# Altium footprint library AP63205WU-7.PcbLib: 3 footprints
Each footprint in its own frame and in the unit in brackets; x right, y up, seen from the top. Pads: shape width x height; smd on the part's side, far side on the other; paste and mask are expansions set on the pad; w line width, h text height; cw(c..) or ccw(c..) is an arc to the next point about the centre after c.
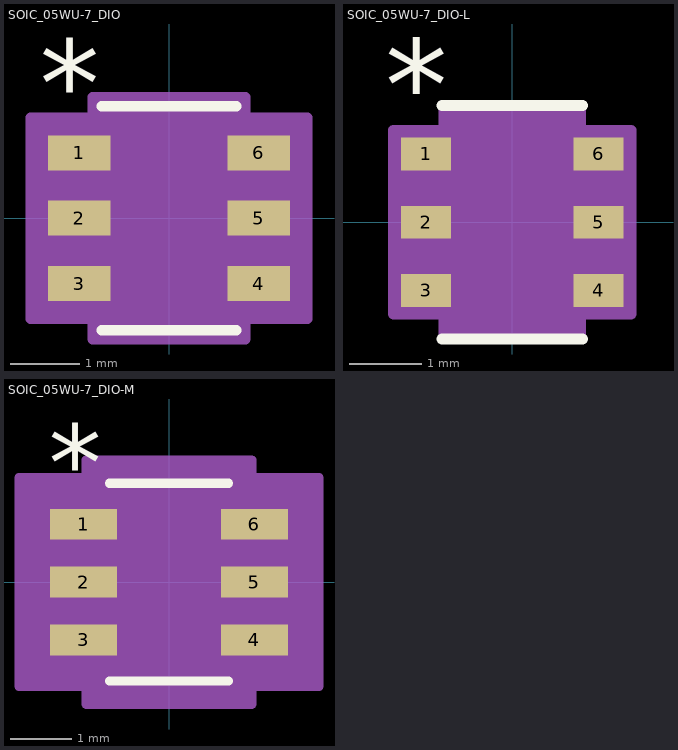
[diagram p0: the footprints below, top view; thin cyan lines are the x and y axes]

## SOIC_05WU-7_DIO [mil]
pads (6):
  rect 35.5x20 smd paste+0 mask+0: 1(-51.25,37.4) 2(-51.25,0) 3(-51.25,-37.4) 4(51.25,-37.4) 5(51.25,0) 6(51.25,37.4)
Top Overlay:
  lines w6: -38.5,-64 38.5,-64 ; -38.5,64 38.5,64
  text "*" at -73.75,52.4 h50
Mechanical 13:
  lines w0: -12,59 ccw(c0,59) 12,59
  lines w1: -55,-46.4 -55,-28.4 -33.5,-28.4 -33.5,-46.4 -55,-46.4 ; -55,-9 -55,9 -33.5,9 -33.5,-9 -55,-9 ; -55,28.4 -55,46.4 -33.5,46.4 -33.5,28.4 -55,28.4 ; -33.5,-59 33.5,-59 33.5,59 -33.5,59 -33.5,-59 ; 33.5,-46.4 33.5,-28.4 55,-28.4 55,-46.4 33.5,-46.4 ; 33.5,-9 33.5,9 55,9 55,-9 33.5,-9 ; 33.5,28.4 33.5,46.4 55,46.4 55,28.4 33.5,28.4
  text "*" at -31,6 h50
Mechanical 15:
  region: -43.5,-57.4 -79,-57.4 -79,57.4 -43.5,57.4 -43.5,69 43.5,69 43.5,57.4 79,57.4 79,-57.4 43.5,-57.4 43.5,-69 -43.5,-69
  lines w6: -79,-57.4 -79,57.4 -43.5,57.4 -43.5,69 43.5,69 43.5,57.4 79,57.4 79,-57.4 43.5,-57.4 43.5,-69 -43.5,-69 -43.5,-57.4 -79,-57.4
3D body "SOIC_05WU-7_DIO.step": height 39.09, standoff 0, extent -55,-59.02 55,59.02

## SOIC_05WU-7_DIO-L [mil]
pads (6):
  rect 27.5x18 smd paste+0 mask+0: 1(-47.25,37.4) 2(-47.25,0) 3(-47.25,-37.4) 4(47.25,-37.4) 5(47.25,0) 6(47.25,37.4)
Top Overlay:
  lines w6: -38.5,-64 38.5,-64 ; -38.5,64 38.5,64
  text "*" at -69.75,50.4 h50
Mechanical 13:
  lines w0: -12,59 ccw(c0,59) 12,59
  lines w1: -55,-46.4 -55,-28.4 -33.5,-28.4 -33.5,-46.4 -55,-46.4 ; -55,-9 -55,9 -33.5,9 -33.5,-9 -55,-9 ; -55,28.4 -55,46.4 -33.5,46.4 -33.5,28.4 -55,28.4 ; -33.5,-59 33.5,-59 33.5,59 -33.5,59 -33.5,-59 ; 33.5,-46.4 33.5,-28.4 55,-28.4 55,-46.4 33.5,-46.4 ; 33.5,-9 33.5,9 55,9 55,-9 33.5,-9 ; 33.5,28.4 33.5,46.4 55,46.4 55,28.4 33.5,28.4
  text "*" at -31,6 h50
Mechanical 15:
  region: -37.5,-50.4 -65,-50.4 -65,50.4 -37.5,50.4 -37.5,63 37.5,63 37.5,50.4 65,50.4 65,-50.4 37.5,-50.4 37.5,-63 -37.5,-63
  lines w6: -65,-50.4 -65,50.4 -37.5,50.4 -37.5,63 37.5,63 37.5,50.4 65,50.4 65,-50.4 37.5,-50.4 37.5,-63 -37.5,-63 -37.5,-50.4 -65,-50.4
3D body "SOIC_05WU-7_DIO.step": height 39.09, standoff 0, extent -55,-59.02 55,59.02

## SOIC_05WU-7_DIO-M [mil]
pads (6):
  rect 43.5x20 smd paste+0 mask+0: 1(-55.25,37.4) 2(-55.25,0) 3(-55.25,-37.4) 4(55.25,-37.4) 5(55.25,0) 6(55.25,37.4)
Top Overlay:
  lines w6: -38.5,-64 38.5,-64 ; -38.5,64 38.5,64
  text "*" at -77.75,52.4 h50
Mechanical 13:
  lines w0: -12,59 ccw(c0,59) 12,59
  lines w1: -55,-46.4 -55,-28.4 -33.5,-28.4 -33.5,-46.4 -55,-46.4 ; -55,-9 -55,9 -33.5,9 -33.5,-9 -55,-9 ; -55,28.4 -55,46.4 -33.5,46.4 -33.5,28.4 -55,28.4 ; -33.5,-59 33.5,-59 33.5,59 -33.5,59 -33.5,-59 ; 33.5,-46.4 33.5,-28.4 55,-28.4 55,-46.4 33.5,-46.4 ; 33.5,-9 33.5,9 55,9 55,-9 33.5,-9 ; 33.5,28.4 33.5,46.4 55,46.4 55,28.4 33.5,28.4
  text "*" at -31,6 h50
Mechanical 15:
  region: -53.5,-67.4 -97,-67.4 -97,67.4 -53.5,67.4 -53.5,79 53.5,79 53.5,67.4 97,67.4 97,-67.4 53.5,-67.4 53.5,-79 -53.5,-79
  lines w6: -97,-67.4 -97,67.4 -53.5,67.4 -53.5,79 53.5,79 53.5,67.4 97,67.4 97,-67.4 53.5,-67.4 53.5,-79 -53.5,-79 -53.5,-67.4 -97,-67.4
3D body "SOIC_05WU-7_DIO.step": height 39.09, standoff 0, extent -55,-59.02 55,59.02